# Altium schematic symbol library 5.芯片原理库.SchLib: 18 symbols
Pins are listed as number, name and electrical type; pins without a type are passive.

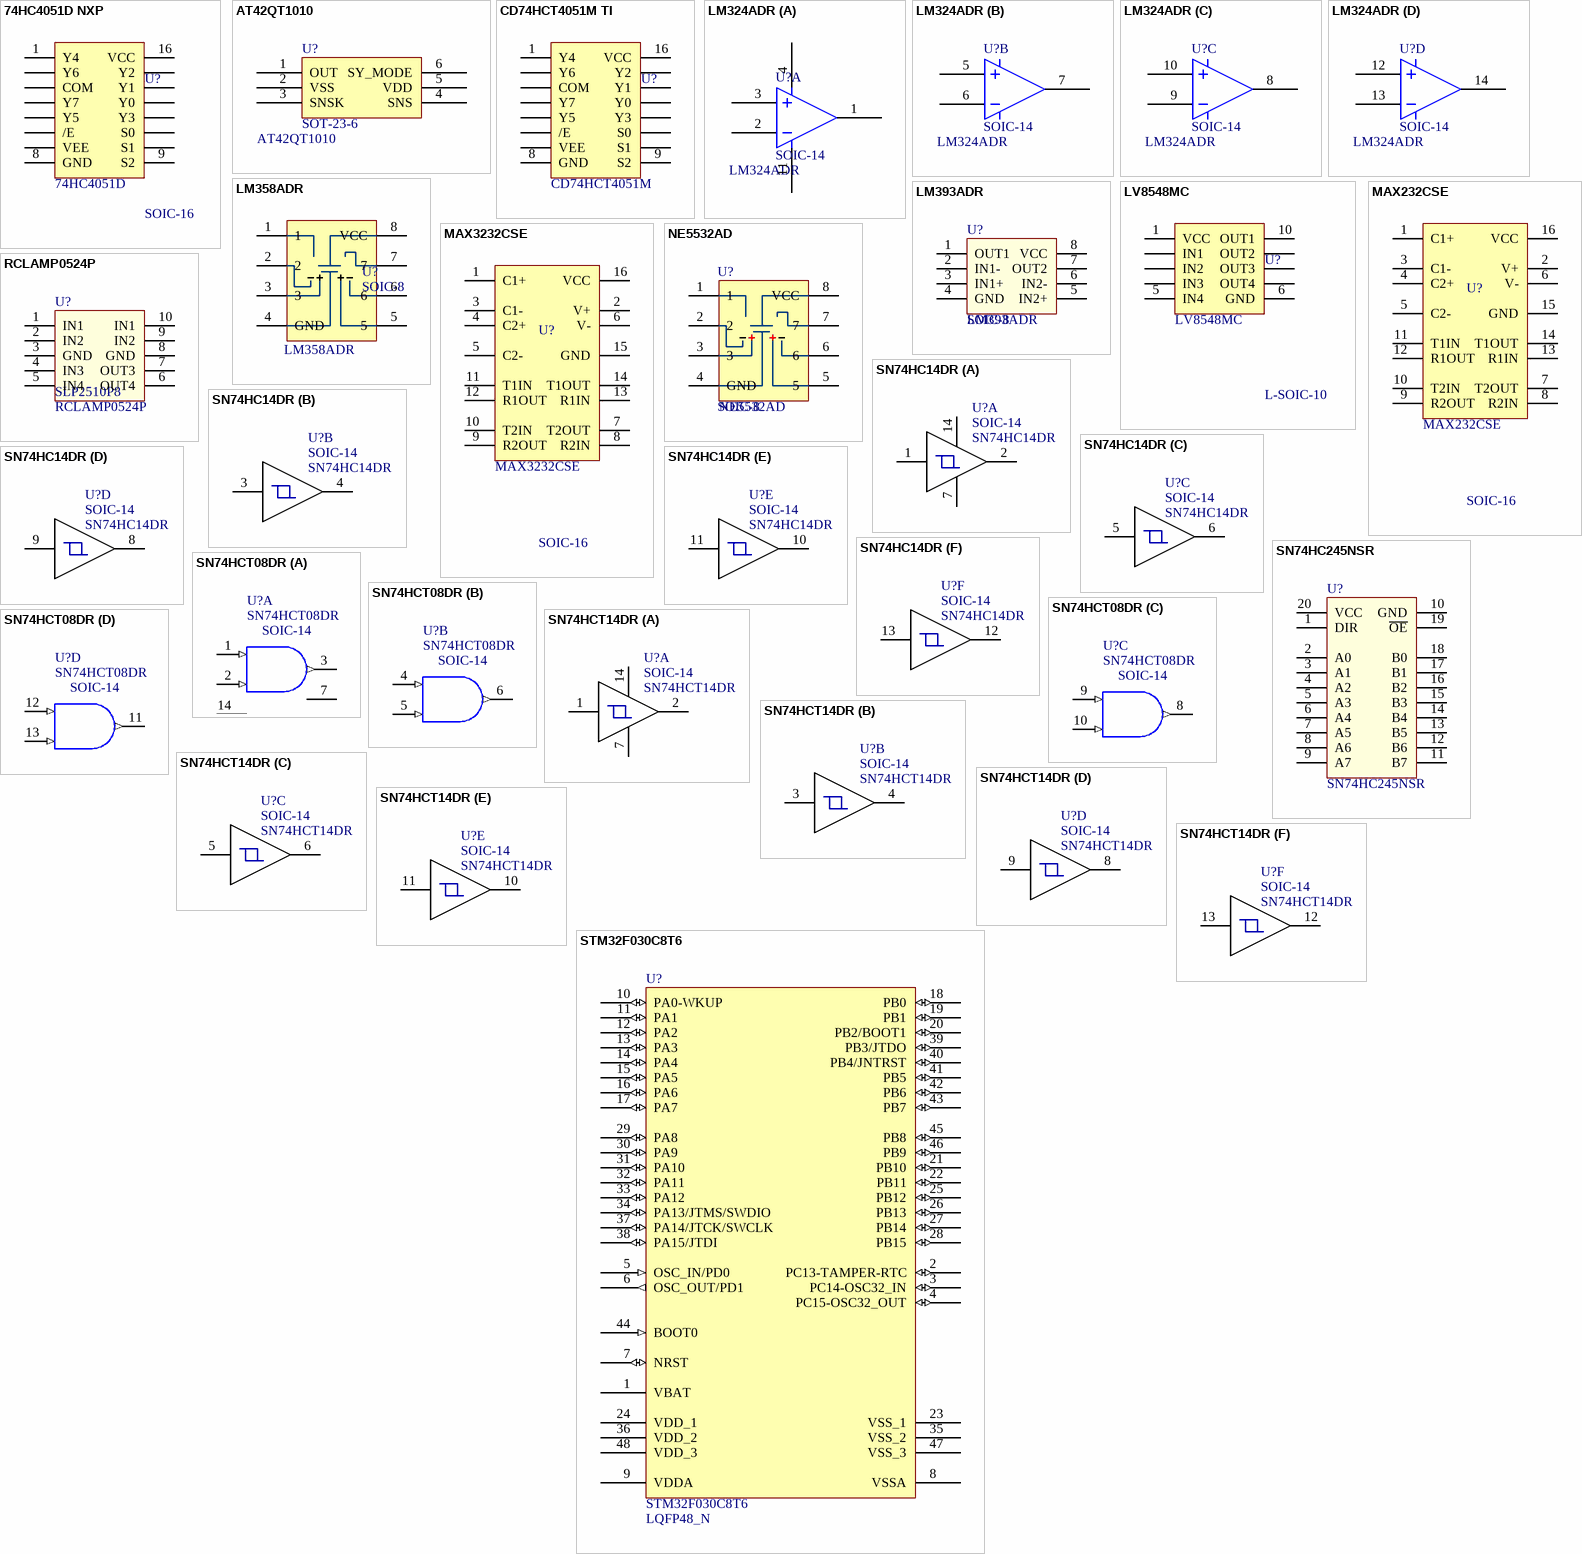
[diagram p0: symbols 74HC4051D NXP to STM32F030C8T6]

## 74HC4051D NXP
designator U?, comment SOIC-16  value 74HC4051D
High-Speed CMOS Logic Analog Multiplexers and Demultiplexers
footprint SOIC-16
pins: 1 Y4, 2 Y6, 3 COM, 4 Y7, 5 Y5, 6 /E, 7 VEE, 8 GND, 9 S2, 10 S1, 11 S0, 12 Y3, 13 Y0, 14 Y1, 15 Y2, 16 VCC

## AT42QT1010
designator U?, comment SOT-23-6  Vaule: AT42QT1010
Touch sensor
footprint SOT-23-6
pins: 1 OUT, 2 VSS, 3 SNSK, 4 SNS, 5 VDD, 6 SY_MODE

## CD74HCT4051M TI
designator U?, comment value CD74HCT4051M  (hidden comment: SOIC-16)
High-Speed CMOS Logic Analog Multiplexers and Demultiplexers
footprint SOIC-16
pins: 1 Y4, 2 Y6, 3 COM, 4 Y7, 5 Y5, 6 /E, 7 VEE, 8 GND, 9 S2, 10 S1, 11 S0, 12 Y3, 13 Y0, 14 Y1, 15 Y2, 16 VCC

## LM324ADR
designator U?, comment SOIC-14  value LM324ADR
Quadruple Operational Amplifiers
footprint SOIC-14
part A pins: 1, 2, 3, 4, 11
part B pins: 5, 6, 7
part C pins: 8, 9, 10
part D pins: 12, 13, 14

## LM358ADR
designator U?, comment SOIC-8  value LM358ADR
Dual Operational Amplifiers
footprint SOIC-8
pins: 1, 2, 3, 4 GND, 5, 6, 7, 8 VCC
2 alternate drawings of the same symbol

## LM393ADR
designator U?, comment SOIC-8  value LM393ADR
Dual Differential Comparators
footprint SOIC-8
pins: 1 OUT1, 2 IN1-, 3 IN1+, 4 GND, 5 IN2+, 6 IN2-, 7 OUT2, 8 VCC

## LV8548MC
designator U?, comment L-SOIC-10  value LV8548MC
12V Forward/Reverse Motor Driver
footprint L-SOIC-10
pins: 1 VCC, 2 IN1, 3 IN2, 4 IN3, 5 IN4, 6 GND, 7 OUT4, 8 OUT3, 9 OUT2, 10 OUT1

## MAX232CSE
designator U?, comment SOIC-16  value MAX232CSE
footprint SOIC-16
pins: 1 C1+, 2 V+, 3 C1-, 4 C2+, 5 C2-, 6 V-, 7 T2OUT, 8 R2IN, 9 R2OUT, 10 T2IN, 11 T1IN, 12 R1OUT, 13 R1IN, 14 T1OUT, 15 GND, 16 VCC

## MAX3232CSE
designator U?, comment SOIC-16  value MAX3232CSE
footprint SOIC-16 (Footprint not found)
pins: 1 C1+, 2 V+, 3 C1-, 4 C2+, 5 C2-, 6 V-, 7 T2OUT, 8 R2IN, 9 R2OUT, 10 T2IN, 11 T1IN, 12 R1OUT, 13 R1IN, 14 T1OUT, 15 GND, 16 VCC

## NE5532AD
designator U?, comment SOIC-8  value NE5532AD
Dual Low-Noise Operational Amplifiers
footprint SOIC-8
pins: 1, 2, 3, 4 GND, 5, 6, 7, 8 VCC

## RCLAMP0524P
designator U?, comment SLP2510P8  value RCLAMP0524P
Ultra?Low?Capacitance?TVS?Arrays
footprint SLP2510P8 (Footprint not found)
pins: 1 IN1, 2 IN2, 3 GND, 4 IN3, 5 IN4, 6 OUT4, 7 OUT3, 8 GND, 9 IN2, 10 IN1

## SN74HC14DR
designator U?, comment SOIC-14  value SN74HC14DR
Hex Schmitt-Trigger Inverters
footprint SOIC-14
part A pins: 1, 2, 7, 14
part B pins: 3, 4
part C pins: 5, 6
part D pins: 8, 9
part E pins: 10, 11
part F pins: 12, 13

## SN74HC245NSR
designator U?, comment value SN74HC245NSR  (hidden comment: SOIC-20)
Octal Bus Transceivers With 3-State Outputs
footprint SOP-20
pins: 1 DIR, 2 A0, 3 A1, 4 A2, 5 A3, 6 A4, 7 A5, 8 A6, 9 A7, 10 GND, 11 B7, 12 B6, 13 B5, 14 B4, 15 B3, 16 B2, 17 B1, 18 B0, 19 ~{OE}, 20 VCC

## SN74HCT08DR
designator U?, comment SOIC-14  value SN74HCT08DR
QUADRUPLE 2-INPUT POSITIVE-AND GATES
footprint SOIC-14
part A pins: 1 A (in), 2 B (in), 3 Y (out), 7 GND (power) hidden to GND, 14 VCC (power) hidden to VCC
part B pins: 4 A (in), 5 B (in), 6 Y (out)
part C pins: 8 Y (out), 9 A (in), 10 B (in)
part D pins: 11 Y (out), 12 A (in), 13 B (in)

## SN74HCT14DR
designator U?, comment SOIC-14  value SN74HCT14DR
Hex Schmitt-Trigger Inverters
footprint SOIC-14
part A pins: 1, 2, 7, 14
part B pins: 3, 4
part C pins: 5, 6
part D pins: 8, 9
part E pins: 10, 11
part F pins: 12, 13

## STM32F030C8T6
designator U?, comment LQFP48_N  value STM32F030C8T6
STM32 ARM-based 32-bit MCU with 64 Kbytes Flash, 48-pin LQFP, Industrial Temperature
footprint LQFP48_N
pins: 1 VBAT (power), 2 PC13-TAMPER-RTC (io), 3 PC14-OSC32_IN (io), 4 PC15-OSC32_OUT (io), 5 OSC_IN/PD0 (in), 6 OSC_OUT/PD1 (out), 7 NRST (io), 8 VSSA (power), 9 VDDA (power), 10 PA0-WKUP (io), 11 PA1 (io), 12 PA2 (io), 13 PA3 (io), 14 PA4 (io), 15 PA5 (io), 16 PA6 (io), 17 PA7 (io), 18 PB0 (io), 19 PB1 (io), 20 PB2/BOOT1 (io), 21 PB10 (io), 22 PB11 (io), 23 VSS_1 (power), 24 VDD_1 (power), 25 PB12 (io), 26 PB13 (io), 27 PB14 (io), 28 PB15 (io), 29 PA8 (io), 30 PA9 (io), 31 PA10 (io), 32 PA11 (io), 33 PA12 (io), 34 PA13/JTMS/SWDIO (io), 35 VSS_2 (power), 36 VDD_2 (power), 37 PA14/JTCK/SWCLK (io), 38 PA15/JTDI (io), 39 PB3/JTDO (io), 40 PB4/JNTRST (io), 41 PB5 (io), 42 PB6 (io), 43 PB7 (io), 44 BOOT0 (in), 45 PB8 (io), 46 PB9 (io), 47 VSS_3 (power), 48 VDD_3 (power)

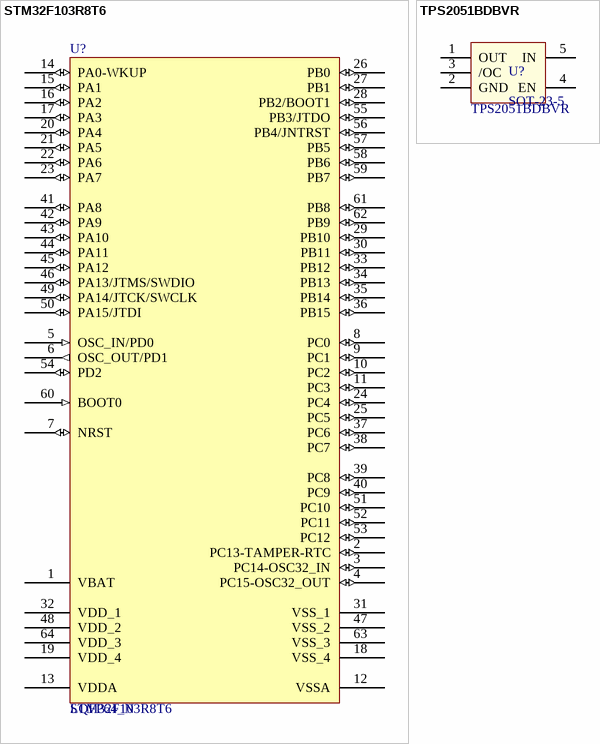
[diagram p1: symbols STM32F103R8T6 to TPS2051BDBVR]

## STM32F103R8T6
designator U?, comment LQFP64_N  value STM32F103R8T6
STM32 ARM-based 32-bit MCU with 64 Kbytes Flash, 64-pin LQFP, Industrial Temperature
footprint LQFP64_N
pins: 1 VBAT (power), 2 PC13-TAMPER-RTC (io), 3 PC14-OSC32_IN (io), 4 PC15-OSC32_OUT (io), 5 OSC_IN/PD0 (in), 6 OSC_OUT/PD1 (out), 7 NRST (io), 8 PC0 (io), 9 PC1 (io), 10 PC2 (io), 11 PC3 (io), 12 VSSA (power), 13 VDDA (power), 14 PA0-WKUP (io), 15 PA1 (io), 16 PA2 (io), 17 PA3 (io), 18 VSS_4 (power), 19 VDD_4 (power), 20 PA4 (io), 21 PA5 (io), 22 PA6 (io), 23 PA7 (io), 24 PC4 (io), 25 PC5 (io), 26 PB0 (io), 27 PB1 (io), 28 PB2/BOOT1 (io), 29 PB10 (io), 30 PB11 (io), 31 VSS_1 (power), 32 VDD_1 (power), 33 PB12 (io), 34 PB13 (io), 35 PB14 (io), 36 PB15 (io), 37 PC6 (io), 38 PC7 (io), 39 PC8 (io), 40 PC9 (io), 41 PA8 (io), 42 PA9 (io), 43 PA10 (io), 44 PA11 (io), 45 PA12 (io), 46 PA13/JTMS/SWDIO (io), 47 VSS_2 (power), 48 VDD_2 (power), 49 PA14/JTCK/SWCLK (io), 50 PA15/JTDI (io), 51 PC10 (io), 52 PC11 (io), 53 PC12 (io), 54 PD2 (io), 55 PB3/JTDO (io), 56 PB4/JNTRST (io), 57 PB5 (io), 58 PB6 (io), 59 PB7 (io), 60 BOOT0 (in), 61 PB8 (io), 62 PB9 (io), 63 VSS_3 (power), 64 VDD_3 (power)

## TPS2051BDBVR
designator U?, comment SOT-23-5  value TPS2051BDBVR
footprint SOT-23-5 (Footprint not found)
pins: 1 OUT, 2 GND, 3 /OC, 4 EN, 5 IN